# EAGLE library part TDA7050 (library tda7050)
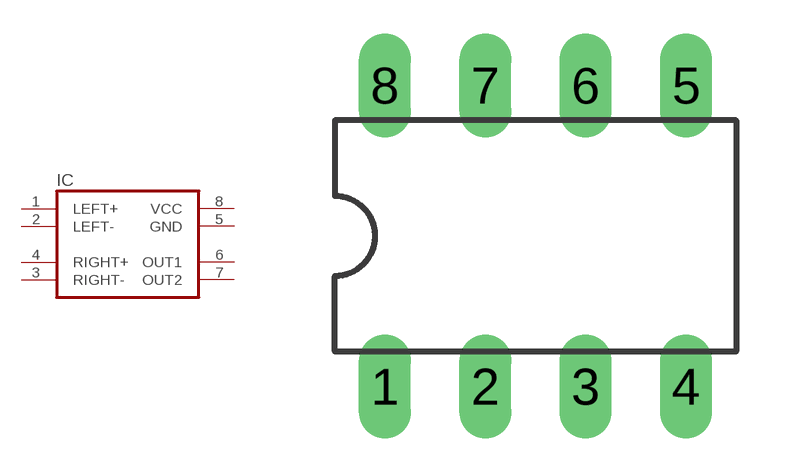
[diagram p0: symbol with the pads of DIL08; footprint DIL08]

Designator prefix IC

## TDA7050  [DIL08]
1  LEFT+  in
2  LEFT-  in
3  RIGHT-  in
4  RIGHT+  in
5  GND
6  OUT1  out
7  OUT2  out
8  VCC

## Footprint DIL08 (pad centres in mm)
Dual In Line Package
drill 0.813 long: 1 -3.81,-3.81; 2 -1.27,-3.81; 3 1.27,-3.81; 4 3.81,-3.81; 5 3.81,3.81; 6 1.27,3.81; 7 -1.27,3.81; 8 -3.81,3.81